# Altium footprint library PcbLib1.PcbLib: 32 footprints (part 1 of 2)
Each footprint in its own frame and in the unit in brackets; x right, y up, seen from the top. Pads: shape width x height; smd on the part's side, far side on the other; paste and mask are expansions set on the pad; w line width, h text height; cw(c..) or ccw(c..) is an arc to the next point about the centre after c.
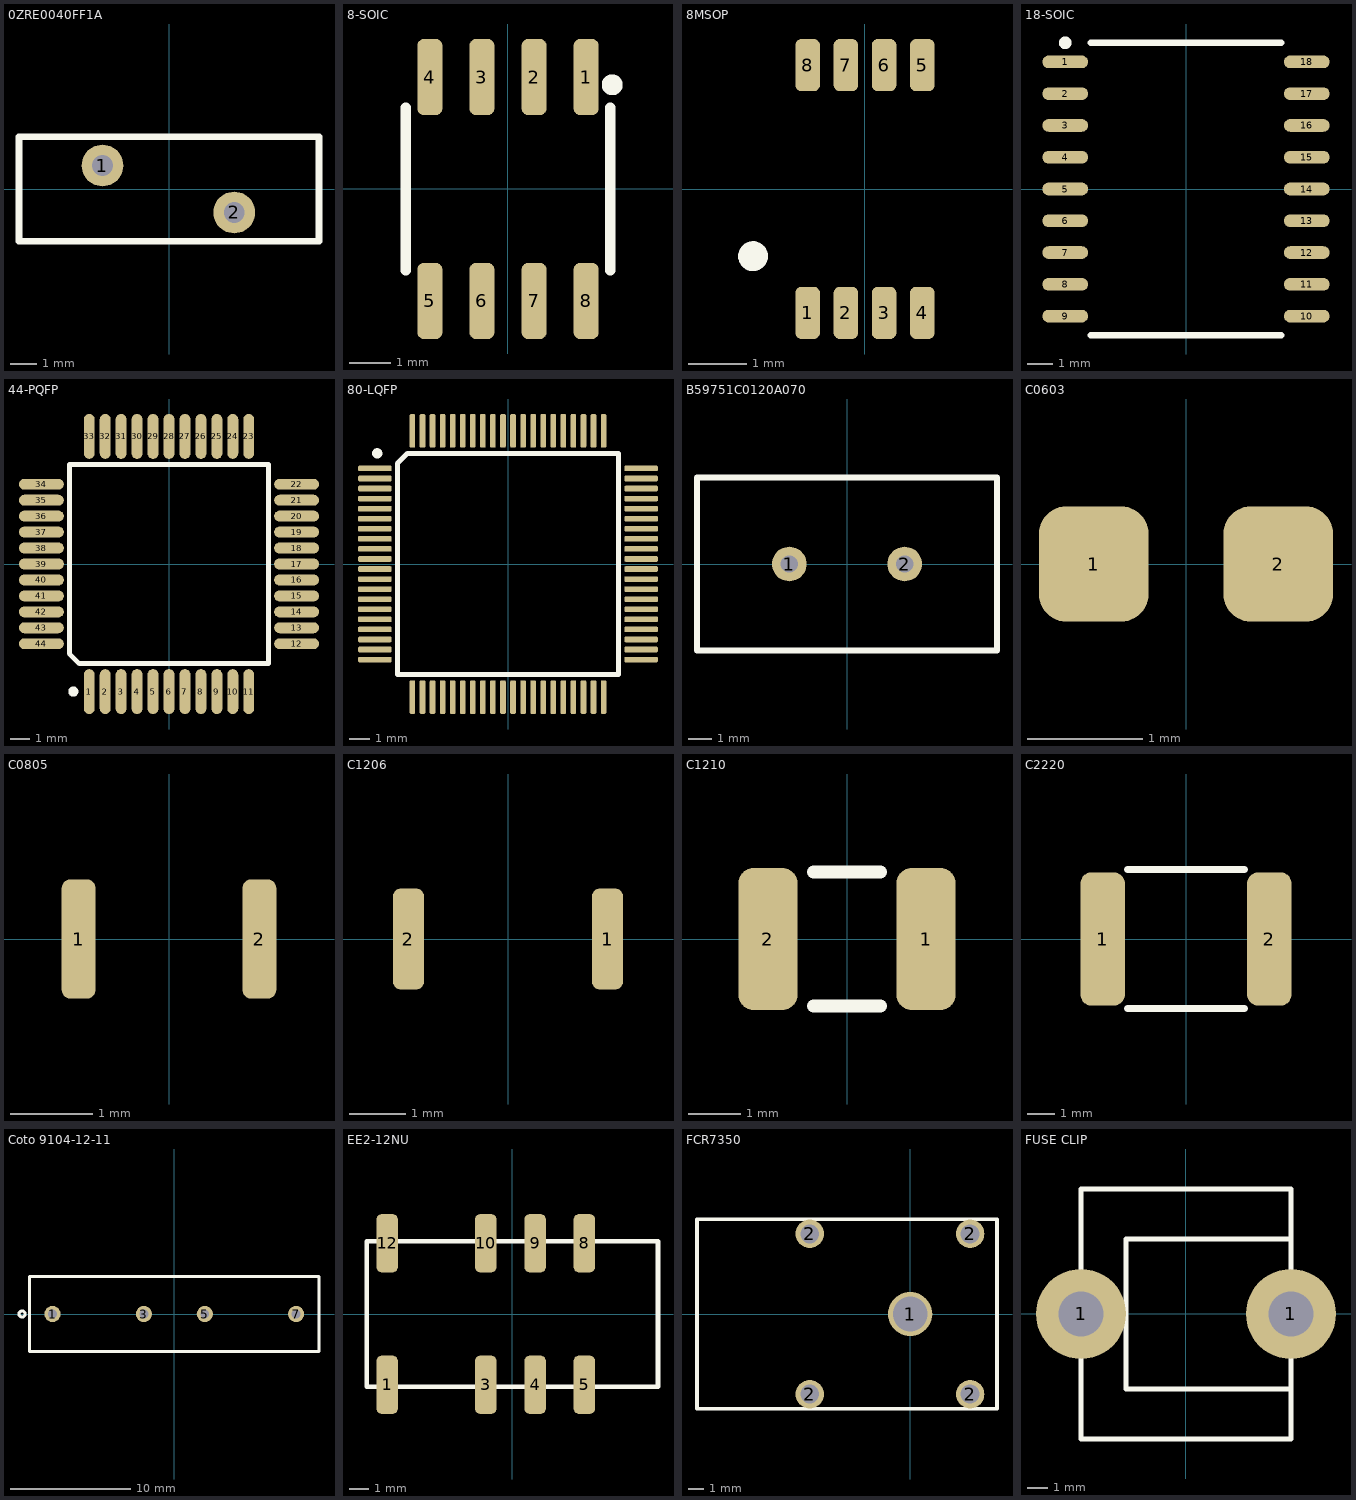
[diagram p0: the footprints below, top view; thin cyan lines are the x and y axes]

## 0ZRE0040FF1A [mm] "PTC RESET FUSE 240V 400MA RADIAL"
height 20
pads (2):
  round 1.6 hole 0.8: 1(-2.55,0.9) 2(2.5,-0.9)
Top Overlay:
  lines w0.25: -5.75,-2 -5.75,2 5.75,2 5.75,-2 -5.75,-2

## 8-SOIC [mil]
pads (8):
  rrect50% 24x73 smd: 1(75,107.5) 2(25,107.5) 3(-25,107.5) 4(-75,107.5) 5(-75,-107.5) 6(-25,-107.5) 7(25,-107.5) 8(75,-107.5)
Top Overlay:
  circle w10: c100,100 r5
  lines w10: -98,-78 -98,78 ; 98,-78 98,78
3D body: height 69.09, standoff 0, extent -98,-122.01 97.99,122

## 8MSOP [mil]
pads (8):
  rrect50% 16.5x35 smd: 1(-38.4,-83) 2(-12.8,-83) 3(12.8,-83) 4(38.4,-83) 5(38.4,83) 6(12.8,83) 7(-12.8,83) 8(-38.4,83)
Top Overlay:
  circle w10: c-75,-45 r5
3D body: height 43.31, standoff 0, extent -59.05,-96.86 59.06,96.87

## 18-SOIC [mil]
pads (18):
  oval 72x20 smd: 1(-190,200) 2(-190,150) 3(-190,100) 4(-190,50) 5(-190,0) 6(-190,-50) 7(-190,-100) 8(-190,-150) 9(-190,-200) 10(190,-200) 11(190,-150) 12(190,-100) 13(190,-50) 14(190,0) 15(190,50) 16(190,100) 17(190,150) 18(190,200)
Top Overlay:
  circle w10: c-190,230 r5
  lines w10: -150,-230 150,-230 ; -150,230 150,230
3D body: height 103.11, standoff 0, extent -204.01,-229.48 204.02,229.49

## 44-PQFP [mm]
pads (44):
  oval 0.55x2.25 smd: 1(-4,-6.4) 2(-3.2,-6.4) 3(-2.4,-6.4) 4(-1.6,-6.4) 5(-0.8,-6.4) 6(0,-6.4) 7(0.8,-6.4) 8(1.6,-6.4) 9(2.4,-6.4) 10(3.2,-6.4) 11(4,-6.4) 23(4,6.4) 24(3.2,6.4) 25(2.4,6.4) 26(1.6,6.4) 27(0.8,6.4) 28(0,6.4) 29(-0.8,6.4) 30(-1.6,6.4) 31(-2.4,6.4) 32(-3.2,6.4) 33(-4,6.4)
  oval 2.25x0.55 smd: 12(6.4,-4) 13(6.4,-3.2) 14(6.4,-2.4) 15(6.4,-1.6) 16(6.4,-0.8) 17(6.4,0) 18(6.4,0.8) 19(6.4,1.6) 20(6.4,2.4) 21(6.4,3.2) 22(6.4,4) 34(-6.4,4) 35(-6.4,3.2) 36(-6.4,2.4) 37(-6.4,1.6) 38(-6.4,0.8) 39(-6.4,0) 40(-6.4,-0.8) 41(-6.4,-1.6) 42(-6.4,-2.4) 43(-6.4,-3.2) 44(-6.4,-4)
Top Overlay:
  circle w0.254: c-4.8,-6.4 r0.127
  lines w0.254: -5,-4.5 -4.5,-5 5,-5 5,5 -5,5 -5,-4.5

## 80-LQFP [mil]
pads (80):
  rrect50% 66x11 smd: 1(-260.5,187.01) 2(-260.5,167.32) 3(-260.5,147.64) 4(-260.5,127.95) 5(-260.5,108.27) 6(-260.5,88.58) 7(-260.5,68.9) 8(-260.5,49.21) 9(-260.5,29.53) 10(-260.5,9.84) 11(-260.5,-9.84) 12(-260.5,-29.53) 13(-260.5,-49.21) 14(-260.5,-68.9) 15(-260.5,-88.58) 16(-260.5,-108.27) 17(-260.5,-127.95) 18(-260.5,-147.64) 19(-260.5,-167.32) 20(-260.5,-187.01) 41(260.5,-187.01) 42(260.5,-167.32) 43(260.5,-147.64) 44(260.5,-127.95) 45(260.5,-108.27) 46(260.5,-88.58) 47(260.5,-68.9) 48(260.5,-49.21) 49(260.5,-29.53) 50(260.5,-9.84) 51(260.5,9.84) 52(260.5,29.53) 53(260.5,49.21) 54(260.5,68.9) 55(260.5,88.58) 56(260.5,108.27) 57(260.5,127.95) 58(260.5,147.64) 59(260.5,167.32) 60(260.5,187.01)
  rrect50% 11x66 smd: 21(-187.01,-260.5) 22(-167.32,-260.5) 23(-147.64,-260.5) 24(-127.95,-260.5) 25(-108.27,-260.5) 26(-88.58,-260.5) 27(-68.9,-260.5) 28(-49.21,-260.5) 29(-29.53,-260.5) 30(-9.84,-260.5) 31(9.84,-260.5) 32(29.53,-260.5) 33(49.21,-260.5) 34(68.9,-260.5) 35(88.58,-260.5) 36(108.27,-260.5) 37(127.95,-260.5) 38(147.64,-260.5) 39(167.32,-260.5) 40(187.01,-260.5) 61(187.01,260.5) 62(167.32,260.5) 63(147.64,260.5) 64(127.95,260.5) 65(108.27,260.5) 66(88.58,260.5) 67(68.9,260.5) 68(49.21,260.5) 69(29.53,260.5) 70(9.84,260.5) 71(-9.84,260.5) 72(-29.53,260.5) 73(-49.21,260.5) 74(-68.9,260.5) 75(-88.58,260.5) 76(-108.27,260.5) 77(-127.95,260.5) 78(-147.64,260.5) 79(-167.32,260.5) 80(-187.01,260.5)
Top Overlay:
  circle w10: c-255.91,216.54 r5
  lines w10: -216.54,-216.54 216.54,-216.54 216.54,216.54 -196.85,216.54 -216.54,196.85 -216.54,-216.54
3D body: height 63.11, standoff 0, extent -279.48,-279.49 279.49,279.49

## B59751C0120A070 [mm] "PTC RESET FUSE 440V 87MA RADIAL"
height 18
pads (2):
  round 1.5 hole 0.75: 1(-2.5,0) 2(2.5,0)
Top Overlay:
  lines w0.25: -6.5,-3.75 6.5,-3.75 6.5,3.75 -6.5,3.75 -6.5,-3.75

## C0603 [mm]
pads (2):
  rrect50% 0.95x1 smd: 1(-0.8,0) 2(0.8,0)
3D body: height 0.93, standoff -0.02, extent -0.875,-0.438 0.875,0.432

## C0805 [mm]
pads (2):
  rrect50% 0.41x1.45 smd: 1(-1.1,0) 2(1.1,0)
3D body: height 1.24, standoff 0, extent -1.105,-0.724 1.105,0.724

## C1206 [mil]
pads (2):
  rrect50% 22x71 smd: 1(70,0) 2(-70,0)
3D body: height -64.98, standoff -114, extent -67,-35.51 67.01,35.51

## C1210 [mil]
pads (2):
  rrect50% 44x106 smd: 1(59,0) 2(-59,0)
Top Overlay:
  lines w10: -25,-50 25,-50 ; -25,50 25,50
3D body: height 110, standoff 0, extent -67,-52.99 67.01,53

## C2220 [mm]
pads (2):
  rrect50% 1.6x4.8 smd: 1(-3,0) 2(3,0)
Top Overlay:
  lines w0.254: -2.1,-2.5 2.1,-2.5 ; -2.1,2.5 2.1,2.5
3D body: height 2.01, standoff 0, extent -2.845,-2.502 2.845,2.502

## Coto 9104-12-11 [mil] "RELAY REED SPST 500MA 12V"
pads (4):
  round 53 hole 29: 1(-400,0) 3(-100,0) 5(100,0) 7(400,0)
Top Overlay:
  circle w10: c-500,0 r10
  lines w10: -475,-123 475,-123 475,123 -475,123 -475,-123
3D body: height 318.45, standoff -125, extent -473.74,-121.99 473.76,122

## EE2-12NU [mm] "Relay DPDT 2A 12V"
pads (8):
  rrect50% 1.11x3 smd: 1(-6.45,-3.645) 3(-1.37,-3.645) 4(1.17,-3.645) 5(3.71,-3.645) 8(3.71,3.645) 9(1.17,3.645) 10(-1.37,3.645) 12(-6.45,3.645)
Top Overlay:
  lines w0.25: -7.5,-3.75 7.5,-3.75 7.5,3.75 -7.5,3.75 -7.5,-3.75

## FCR7350 [mm] "Banana Jack"
pads (5):
  round 2.8 hole 2.2: 1(0,0)
  round 1.8 hole 1.2: 2(-6.36,-5.08) 2(-6.36,5.08) 2(3.8,-5.08) 2(3.8,5.08)
Top Overlay:
  lines w0.25: -13.5,-6 -13.5,6 5.5,6 5.5,-6 -13.5,-6
3D body: height 12.3, standoff -2.7, extent -27.5,-6 5.5,6

## FUSE CLIP [mm] "FUSE CLIP CARTRIDGE 30A PCB"
pads (2):
  round 4.5 hole 2.26: 1(-5.24,0) 1(5.24,0)
Top Overlay:
  lines w0.25: 5.25,-3.75 -3,-3.75 -3,3.75 5.25,3.75 ; -5.25,-6.25 -5.25,6.25 5.25,6.25 5.25,-6.25 -5.25,-6.25